# Altium schematic symbol library 1812L014DR.Schlib: 1 symbol
Pins are listed as number, name and electrical type; pins without a type are passive.

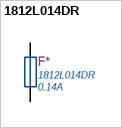
[diagram p0: symbol 1812L014DR]

## 1812L014DR
designator F*  Hold Current: 0.14A
Polymeric 60V 340mA 150ms 6Ω 1812 PTC Resettable Fuses RoHS; Manufacturer 1: Littelfuse; Manufacturer Part Number 1: 1812L050/30PR; Max Current Rating: 10A; Resistance: 1.5R; Power Dissipation: 800mW; Trip Current: 1.5A; Time to Trip: 0.15s; Approvals: cULus,TUV; Supplier 1: Digi-Key; Stock 1: 29645; Pricing 1: 1=1.00000, 5=0.97200, 10=0.90900, 50=0.75240, 100=0.62700, 250=0.61132, 500=0.51728, 1000=0.45458 (USD); RoHS: Yes; Case/Package: 1812; Case Code (Metric): 4532; Case Code (Imperial): 1812; Min Operating Temperature: -40°C; Max Operating Temperature: 85°C; Packaging: Tape and Reel; Current Rating: 10A; Package Quantity: 2000; Termination: SMD/SMT; Max Voltage Rating (DC): 60V; Working Voltage: 60V; Voltage Rating (DC): 60V; REACH SVHC: Unknown; Lead Free: Lead Free; Supplier Part Number 1: F4159CT-ND; LCSC Part #: C151166
footprint CH1812F (Chip Fuse, 1812)
pins: 1, 2